# Altium footprint library BMS.PcbLib: 7 footprints
Each footprint in its own frame and in the unit in brackets; x right, y up, seen from the top. Pads: shape width x height; smd on the part's side, far side on the other; paste and mask are expansions set on the pad; w line width, h text height; cw(c..) or ccw(c..) is an arc to the next point about the centre after c.
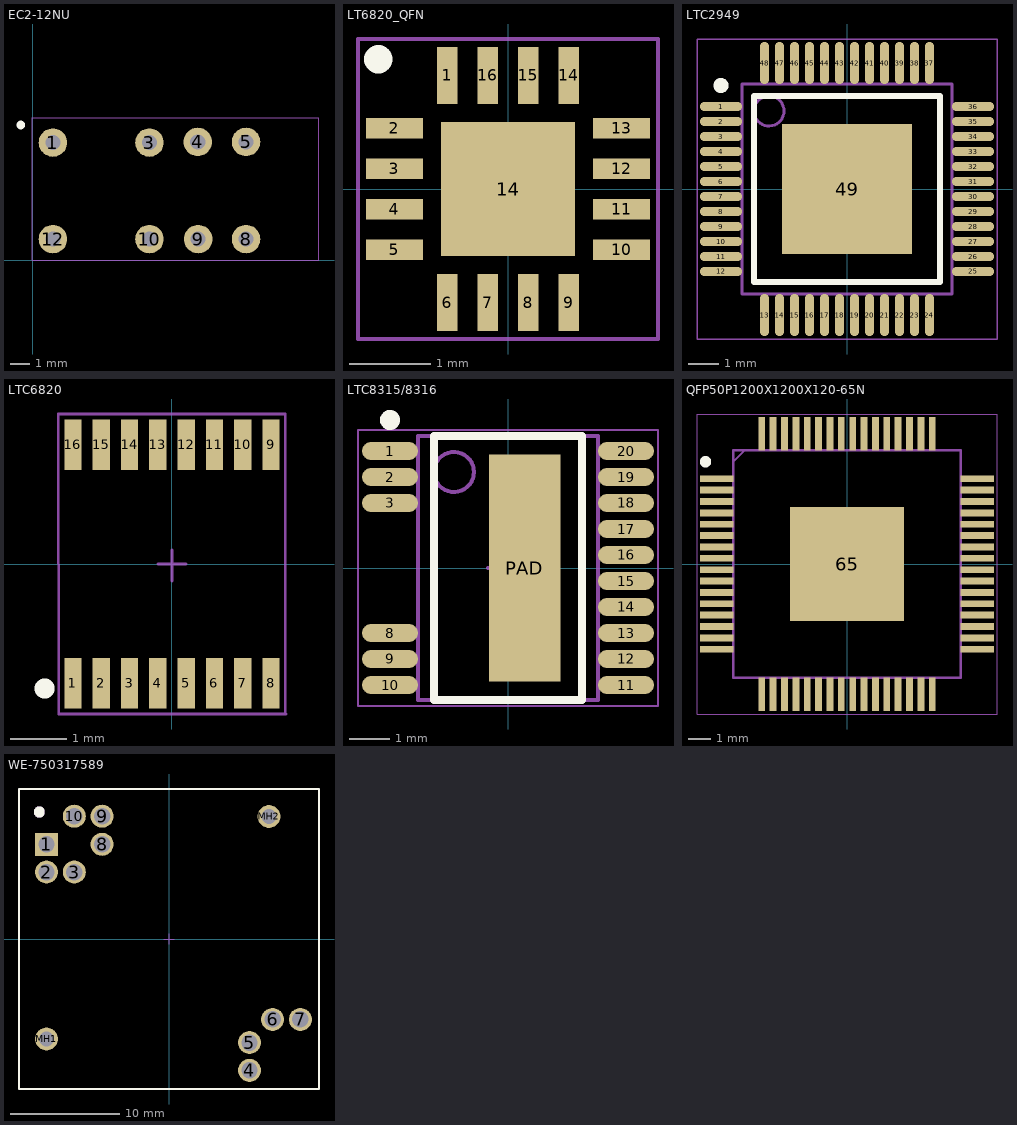
[diagram p0: the footprints below, top view; thin cyan lines are the x and y axes]

## EC2-12NU [mm] "Precharge relay"
pads (8):
  round 1.5 hole 0.8: 1(1.05,6.19) 3(6.13,6.19) 4(8.67,6.223) 5(11.21,6.223) 8(11.21,1.11) 9(8.69,1.11) 10(6.13,1.11) 12(1.05,1.11)
Top Overlay:
  circle w0.254: c-0.635,7.112 r0.1
Mechanical 15:
  lines w0.05: -0.05,0 -0.05,7.493 15.05,7.493 15.05,0 -0.05,0
3D body "EC2-12NU.step": height 8.9, standoff -3.9, extent 0,0 15,7.5

## LT6820_QFN [mm] "QFN for 6820"
pads (17):
  rect 0.25x0.7 smd mask+0.07: 1(-0.75,1.4) 6(-0.75,-1.4) 7(-0.25,-1.4) 8(0.25,-1.4) 9(0.75,-1.4) 14(0.75,1.4) 15(0.25,1.4) 16(-0.25,1.4)
  rect 0.7x0.25 smd mask+0.07: 2(-1.4,0.75) 3(-1.4,0.25) 4(-1.4,-0.25) 5(-1.4,-0.75) 10(1.4,-0.75) 11(1.4,-0.25) 12(1.4,0.25) 13(1.4,0.75)
  rect 1.65x1.65 smd mask+0.07: 14(0,0)
Top Overlay:
  circle w0.25: c-1.6,1.6 r0.05
Mechanical 15:
  lines w0.05: -1.85,-1.85 1.85,-1.85 1.85,1.85 -0.9,1.85 -1.85,1.85 -1.85,-1.85
3D body "QFN-16_UD.step": height 0.8, standoff 0, extent -1.55,-1.55 1.55,1.55

## LTC2949 [mm] "LQFP, 48-Leads, IPC Medium Density"
height 1.6
pads (49):
  oval 1.4x0.3 smd: 1(-4.2,2.75) 2(-4.2,2.25) 3(-4.2,1.75) 4(-4.2,1.25) 5(-4.2,0.75) 6(-4.2,0.25) 7(-4.2,-0.25) 8(-4.2,-0.75) 9(-4.2,-1.25) 10(-4.2,-1.75) 11(-4.2,-2.25) 12(-4.2,-2.75) 25(4.2,-2.75) 26(4.2,-2.25) 27(4.2,-1.75) 28(4.2,-1.25) 29(4.2,-0.75) 30(4.2,-0.25) 31(4.2,0.25) 32(4.2,0.75) 33(4.2,1.25) 34(4.2,1.75) 35(4.2,2.25) 36(4.2,2.75)
  oval 0.3x1.4 smd: 13(-2.75,-4.2) 14(-2.25,-4.2) 15(-1.75,-4.2) 16(-1.25,-4.2) 17(-0.75,-4.2) 18(-0.25,-4.2) 19(0.25,-4.2) 20(0.75,-4.2) 21(1.25,-4.2) 22(1.75,-4.2) 23(2.25,-4.2) 24(2.75,-4.2) 37(2.75,4.2) 38(2.25,4.2) 39(1.75,4.2) 40(1.25,4.2) 41(0.75,4.2) 42(0.25,4.2) 43(-0.25,4.2) 44(-0.75,4.2) 45(-1.25,4.2) 46(-1.75,4.2) 47(-2.25,4.2) 48(-2.75,4.2)
  rect 4.35x4.35 smd: 49(0,0)
Top Overlay:
  circle w0.25: c-4.2,3.45 r0.125
  lines w0.2: -3.1,-3.1 3.1,-3.1 3.1,3.1 -3.1,3.1 -3.1,-3.1
Mechanical 13:
  circle w0.1: c-2.6,2.6 r0.5
  lines w0.1: -3.5,-3.5 3.5,-3.5 3.5,3.5 -3.5,3.5 -3.5,-3.5
Mechanical 15:
  lines w0.05: -5,-5 5,-5 5,5 -5,5 -5,-5
  lines w0.1: -0.5,0 0.5,0 ; 0,-0.5 0,0.5
3D body: height 1.6, standoff 0.1, extent -3.5,-3.5 3.5,3.5

## LTC6820 [mm] "TSSOP for 6820"
pads (16):
  rect 0.305x0.889 smd: 1(-1.75,-2.106) 2(-1.25,-2.106) 3(-0.75,-2.106) 4(-0.25,-2.106) 5(0.25,-2.106) 6(0.75,-2.106) 7(1.25,-2.106) 8(1.75,-2.106) 9(1.75,2.106) 10(1.25,2.106) 11(0.75,2.106) 12(0.25,2.106) 13(-0.25,2.106) 14(-0.75,2.106) 15(-1.25,2.106) 16(-1.75,2.106)
Top Overlay:
  circle w0.254: c-2.25,-2.2 r0.05
Mechanical 15:
  lines w0.05: -0.25,0 0.25,0 ; 0,-0.3 0,0.25 ; 2,-2.65 2,2.65 -2.01,2.65 -2,-2.65 2.012,-2.65
3D body "MSOP-16_3x4mm_P0.5mm.step": height 0.95, standoff 0, extent -2,-2.45 2,2.45

## LTC8315/8316 [mm] "TSOP, 20-Leads, Body 6.50x4.40mm, Pitch 0.65mm, Thermal Pad 5.68x1.78mm, IPC Medium Density"
height 1.2
pads (17):
  oval 1.4x0.45 smd: 1(-2.95,2.925) 2(-2.95,2.275) 3(-2.95,1.625) 8(-2.95,-1.625) 9(-2.95,-2.275) 10(-2.95,-2.925) 11(2.95,-2.925) 12(2.95,-2.275) 13(2.95,-1.625) 14(2.95,-0.975) 15(2.95,-0.325) 16(2.95,0.325) 17(2.95,0.975) 18(2.95,1.625) 19(2.95,2.275) 20(2.95,2.925)
  rect 1.78x5.68 smd: PAD(0.42,0)
Top Overlay:
  circle w0.25: c-2.95,3.7 r0.125
  lines w0.2: -1.85,-3.3 1.85,-3.3 1.85,3.3 -1.85,3.3 -1.85,-3.3
Mechanical 13:
  circle w0.1: c-1.35,2.4 r0.5
  lines w0.1: -2.25,-3.3 2.25,-3.3 2.25,3.3 -2.25,3.3 -2.25,-3.3
Mechanical 15:
  lines w0.05: -3.75,-3.45 3.75,-3.45 3.75,3.45 -3.75,3.45 -3.75,-3.45
  lines w0.1: -0.5,0 0.5,0 ; 0,-0.5 0,0.5
3D body: height 1.2, standoff 0.05, extent -2.25,-3.3 2.25,3.3

## QFP50P1200X1200X120-65N [mm]
pads (65):
  rect 1.475x0.3 smd: 1(-5.738,3.75) 2(-5.738,3.25) 3(-5.738,2.75) 4(-5.738,2.25) 5(-5.738,1.75) 6(-5.738,1.25) 7(-5.738,0.75) 8(-5.738,0.25) 9(-5.738,-0.25) 10(-5.738,-0.75) 11(-5.738,-1.25) 12(-5.738,-1.75) 13(-5.738,-2.25) 14(-5.738,-2.75) 15(-5.738,-3.25) 16(-5.738,-3.75) 33(5.738,-3.75) 34(5.738,-3.25) 35(5.738,-2.75) 36(5.738,-2.25) 37(5.738,-1.75) 38(5.738,-1.25) 39(5.738,-0.75) 40(5.738,-0.25) 41(5.738,0.25) 42(5.738,0.75) 43(5.738,1.25) 44(5.738,1.75) 45(5.738,2.25) 46(5.738,2.75) 47(5.738,3.25) 48(5.738,3.75)
  rect 0.3x1.475 smd: 17(-3.75,-5.738) 18(-3.25,-5.738) 19(-2.75,-5.738) 20(-2.25,-5.738) 21(-1.75,-5.738) 22(-1.25,-5.738) 23(-0.75,-5.738) 24(-0.25,-5.738) 25(0.25,-5.738) 26(0.75,-5.738) 27(1.25,-5.738) 28(1.75,-5.738) 29(2.25,-5.738) 30(2.75,-5.738) 31(3.25,-5.738) 32(3.75,-5.738) 49(3.75,5.738) 50(3.25,5.738) 51(2.75,5.738) 52(2.25,5.738) 53(1.75,5.738) 54(1.25,5.738) 55(0.75,5.738) 56(0.25,5.738) 57(-0.25,5.738) 58(-0.75,5.738) 59(-1.25,5.738) 60(-1.75,5.738) 61(-2.25,5.738) 62(-2.75,5.738) 63(-3.25,5.738) 64(-3.75,5.738)
  rect 5x5 smd: 65(0,0)
Top Overlay:
  circle w0.25: c-6.225,4.5 r0.125
Mechanical 13:
  lines w0.1: -5,4.5 -4.5,5 ; -5,-5 -5,5 5,5 5,-5 -5,-5
Mechanical 15:
  lines w0.05: -6.6,-6.6 -6.6,6.6 6.6,6.6 6.6,-6.6 -6.6,-6.6
3D body "BQ76PL536ATPAPTQ1.stp": height 1.2, standoff 0, extent -6,-6 6,6

## WE-750317589 [mm] "RM10 10-Terminal FLlyback Transformer"
height 20.5
pads (12):
  rect 2.1x2.1 hole 1.5: 1(-11.19,8.652)
  round 2.1 hole 1.5: 2(-11.19,6.112) 3(-8.65,6.112) 4(7.35,-11.998) 5(7.35,-9.458) 6(9.46,-7.348) 7(12,-7.348) 8(-6.11,8.652) 9(-6.11,11.212) 10(-8.65,11.212)
  round 2.1 hole 1.4: MH1(-11.19,-9.128) MH2(9.13,11.192)
Top Overlay:
  circle w0.5: c-11.85,11.6 r0.25
  lines w0.2: -13.7,-13.7 -13.7,13.7 13.7,13.7 13.7,-13.7 -13.7,-13.7
Mechanical 13:
  circle w0.5: c-11.85,11.6 r0.25
  lines w0.1: -13.65,-13.7 -13.65,13.7 13.7,13.7 13.7,-13.7 -13.65,-13.7
Mechanical 15:
  lines w0.05: -0.5,0 0.5,0 ; 0,-0.5 0,0.5 ; -13.7,-13.7 -13.7,13.7 13.7,13.7 13.7,-13.7 -13.7,-13.7
3D body "RM10_6920_0009.STEP": height 19.25, standoff -2.72, extent -13.602,-13.602 13.602,13.602